# Altium schematic symbol library 2SD2653KT146.SchLib: 1 symbol
Pins are listed as number, name and electrical type; pins without a type are passive.

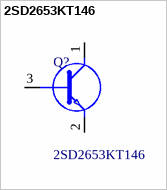
[diagram p0: symbol 2SD2653KT146]

## 2SD2653KT146
designator Q?
ROHM 2SD2653KT146 NPN Bipolar Transistor, 2 A, 12 V, 3-Pin SC-59; Manufacturer_Name: ROHM Semiconductor; Geometry.Height: 1.15mm; Mouser Part Number: 755-2SD2653KT146; Mouser Price/Stock: https://www.mouser.co.uk/ProductDetail/ROHM-Semiconductor/2SD2653KT146?qs=4kLU8WoGk0t5OHI0NRNKLg%3D%3D; Manufacturer_Part_Number: 2SD2653KT146; Datasheet Link: https://componentsearchengine.com/Datasheets/2/2SD2653KT146.pdf
footprint SOT85P240X115-3N
pins: 1 C, 2 E, 3 B